# Altium footprint library SOD-123F.PcbLib: 1 footprints
Each footprint in its own frame and in the unit in brackets; x right, y up, seen from the top. Pads: shape width x height; smd on the part's side, far side on the other; paste and mask are expansions set on the pad; w line width, h text height; cw(c..) or ccw(c..) is an arc to the next point about the centre after c.
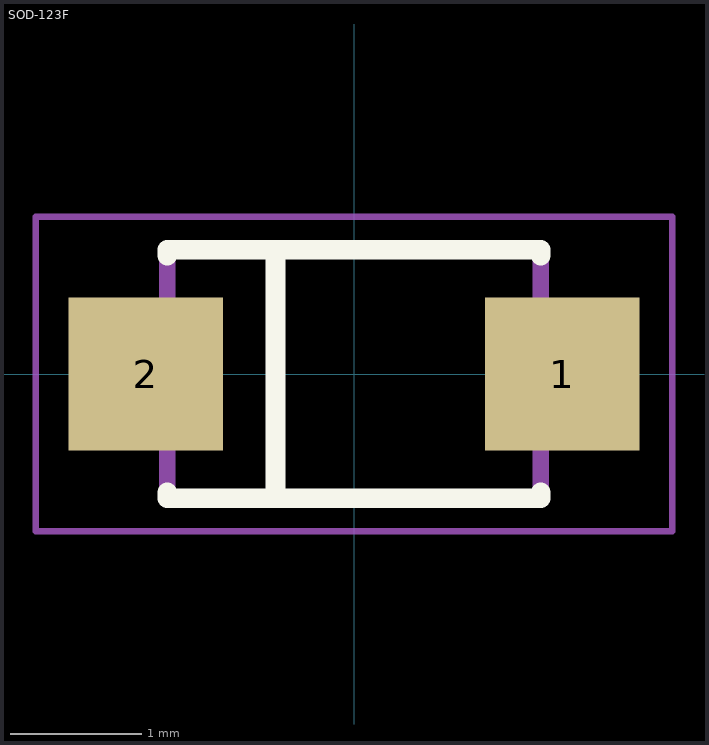
[diagram p0: the footprint, top view; thin cyan lines are the x and y axes]

## SOD-123F [mm]
pads (2):
  rect 1.18x1.17 smd: 1(1.59,0) 2(-1.59,0)
Top Overlay:
  lines w0.15: -1.425,-0.905 -1.425,-0.95 1.425,-0.95 1.425,-0.905 ; -1.425,0.905 -1.425,0.95 1.425,0.95 1.425,0.905 ; -0.6,-0.9 -0.6,0.9
Mechanical 13:
  lines w0.127: -1.425,-0.95 -1.425,0.95 1.425,0.95 1.425,-0.95 -1.425,-0.95
Mechanical 15:
  lines w0.05: -2.43,-1.2 -2.43,1.2 2.43,1.2 2.43,-1.2 -2.43,-1.2
3D body "SOD-123F.STEP": height 1.35, standoff 0, extent -1.85,-0.95 1.85,0.95